# Altium integrated library nrf52833_cjaa.IntLib: 10 symbols
Pins are listed as number, name and electrical type; pins without a type are passive.

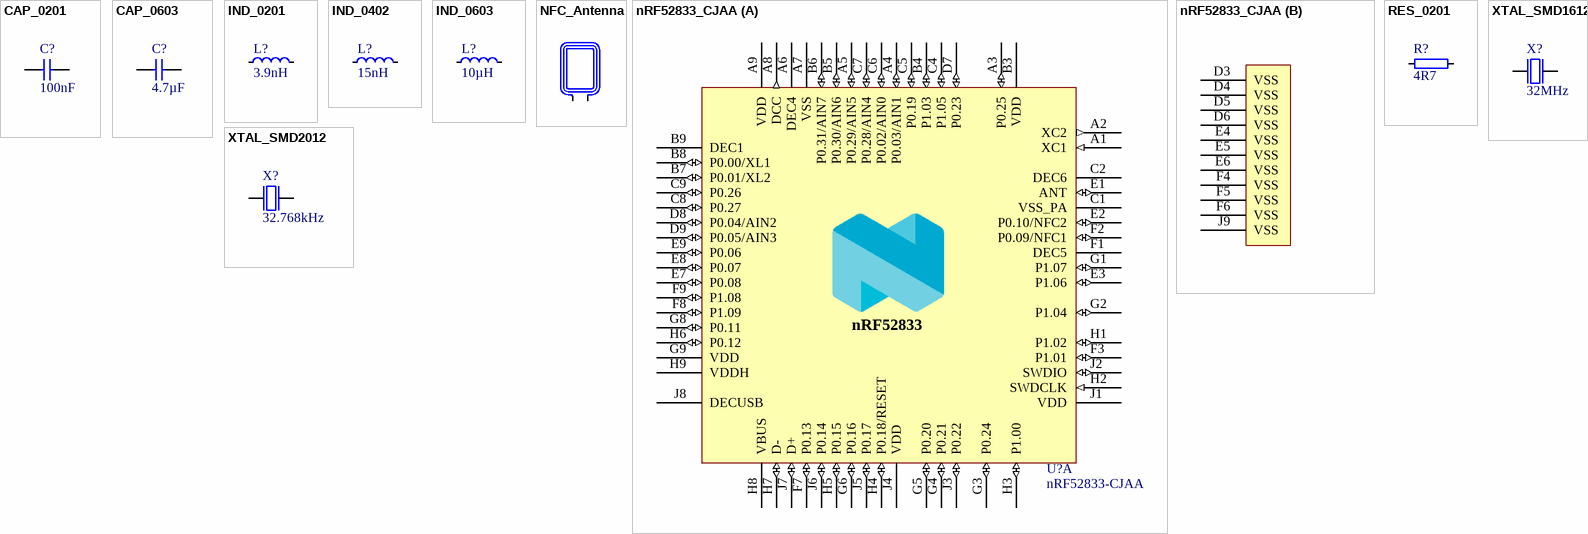
[diagram p0: symbols CAP_0201 to XTAL_SMD2012]

## CAP_0201
designator C?, comment 100nF
Capacitor, X7S, ±10%; Part Number: C0201-100n; LatestRevisionDate: 2017-11-09; Pin Count: 2; Publisher: Nordic Semiconductor; Published: 2014-11-13; Value: 100nF; Footprint Doc: 0201
footprint CAPC0603X03L_C
pins: 1, 2

## CAP_0603
designator C?, comment 4.7µF
Capacitor, X7R, ±10%; Part Number: C0603-4µ7-6.3V-X7R; LatestRevisionDate: 2015-06-10; Pin Count: 2; Publisher: Nordic Semiconductor; Published: 2015-06-10; Value: 4.7µF; Footprint Doc: 0603
footprint CAPC1608X06L
pins: 1, 2

## IND_0201
designator L?, comment 3.9nH
High frequency chip inductor ±5%; Part Number: L0201-3n9; LatestRevisionDate: 2017-11-09; Pin Count: 2; Publisher: Nordic Semiconductor; Published: 2013-04-10; Value: 3.9nH; Footprint Doc: 0201
footprint INDC0603X03L_C
pins: 1, 2

## IND_0402
designator L?, comment 15nH
High frequency chip inductor ±10%; Part Number: L0402-15n; LatestRevisionDate: 2012-09-19; Pin Count: 2; Publisher: Nordic Semiconductor; Published: 2010-07-12; Value: 15nH; Footprint Doc: 0402
footprint INDC1005X04L
pins: 1, 2

## IND_0603
designator L?, comment 10µH
Chip inductor, IDC,min = 50 mA, ±20%; Part Number: L0603-10µ-TDK; LatestRevisionDate: 2012-09-19; Pin Count: 2; Publisher: Nordic Semiconductor; Published: 2019-05-06; Value: 10µH; Footprint Doc: 0603
footprint INDC1608X06L
pins: 1, 2

## NFC_Antenna
designator A??, comment NFC Antenna  (value not drawn)  (no BOM)
Part Number: NFC_ANT_TP; Footprint Doc: TP_2x1mm_TH; LatestRevisionDate: 2016-02-23; Pin Count: 2; Publisher: Nordic Semiconductor; Published: 2016-02-23; Value: NFC Antenna
footprint TP_2x1mm_TH
pins: 1, 2

## nRF52833_CJAA
designator U?, comment nRF52833-CJAA
Multi-protocol Bluetooth Low Energy, IEEE 802.15.4, ANT and 2.4GHz proprietary system-on-chip; Part Number: nRF52833-CJAA; LatestRevisionDate: 2019-12-19; Pin Count: 75; Publisher: Nordic Semiconductor; Published: 2019-02-08; Value: nRF52833-CJAA; Footprint Doc: WLCSP-75
footprint BGA75C35P10X10_318X318X50
part A pins: A1 XC1 (in), A2 XC2 (out), A3 P0.25 (io), A4 P0.03/AIN1 (io), A5 P0.29/AIN5 (io), A6 DEC4 (power), A7 VSS (power), A8 DCC (out), A9 VDD (power), B3 VDD (power), B4 P1.03 (io), B5 P0.30/AIN6 (io), B6 P0.31/AIN7 (io), B7 P0.01/XL2 (io), B8 P0.00/XL1 (io), B9 DEC1 (power), C1 VSS_PA (power), C2 DEC6 (power), C4 P1.05 (io), C5 P0.19 (io), C6 P0.02/AIN0 (io), C7 P0.28/AIN4 (io), C8 P0.27 (io), C9 P0.26 (io), D7 P0.23 (io), D8 P0.04/AIN2 (io), D9 P0.05/AIN3 (io), E1 ANT (io), E2 P0.10/NFC2 (io), E3 P1.06 (io), E7 P0.08 (io), E8 P0.07 (io), E9 P0.06 (io), F1 DEC5 (power), F2 P0.09/NFC1 (io), F3 P1.01 (io), F7 P0.13 (io), F8 P1.09 (io), F9 P1.08 (io), G1 P1.07 (io), G2 P1.04 (io), G3 P0.24 (io), G4 P0.21 (io), G5 P0.20 (io), G6 P0.16 (io), G8 P0.11 (io), G9 VDD (power), H1 P1.02 (io), H2 SWDCLK (in), H3 P1.00 (io), H4 P0.18/RESET (io), H5 P0.15 (io), H6 P0.12 (io), H7 D- (io), H8 VBUS (power), H9 VDDH (power), J1 VDD (power), J2 SWDIO (io), J3 P0.22 (io), J4 VDD (power), J5 P0.17 (io), J6 P0.14 (io), J7 D+ (io), J8 DECUSB (power)
part B pins: D3 VSS (power), D4 VSS (power), D5 VSS (power), D6 VSS (power), E4 VSS (power), E5 VSS (power), E6 VSS (power), F4 VSS (power), F5 VSS (power), F6 VSS (power), J9 VSS (power)
part A text: nRF52833

## RES_0201
designator R?, comment 4R7
Resistor, ±1%, 0.05W; Part Number: R0201-4R7; Footprint Doc: 0201; LatestRevisionDate: 2014-11-13; Pin Count: 2; Publisher: Nordic Semiconductor; Published: 2014-11-13; Value: 4R7
footprint RESC0603X03L_C
pins: 1, 2

## XTAL_SMD1612
designator X?, comment 32MHz
XTAL SMD 1612, 32MHz, Cl=8pF, Total Tol: ±40ppm; Part Number: XTAL_SMD1612_32MHz_8pF_General; LatestRevisionDate: 2016-08-19; Pin Count: 4; Publisher: Nordic Semiconductor; Published: 2016-08-19; Value: 32MHz; Footprint Doc: XTAL_1612
footprint BT-XTAL_1612
pins: 1 inp, 2 GND hidden to GND, 3 out, 4 GND hidden to GND

## XTAL_SMD2012
designator X?, comment 32.768kHz
XTAL SMD 2012, 32.768kHz, Cl=9pF, Total Tol: ±50ppm; Part Number: XTAL_SMD2012_32.768kHz_9pF_General; LatestRevisionDate: 2017-01-11; Pin Count: 2; Publisher: Nordic Semiconductor; Published: 2016-08-19; Value: 32.768kHz; Footprint Doc: XTAL_2012
footprint XTAL_2012
pins: 1 inp, 2 out